# Altium footprint library PwrSupply-Footprints-Library.PcbLib: 18 footprints (part 1 of 2)
Each footprint in its own frame and in the unit in brackets; x right, y up, seen from the top. Pads: shape width x height; smd on the part's side, far side on the other; paste and mask are expansions set on the pad; w line width, h text height; cw(c..) or ccw(c..) is an arc to the next point about the centre after c.
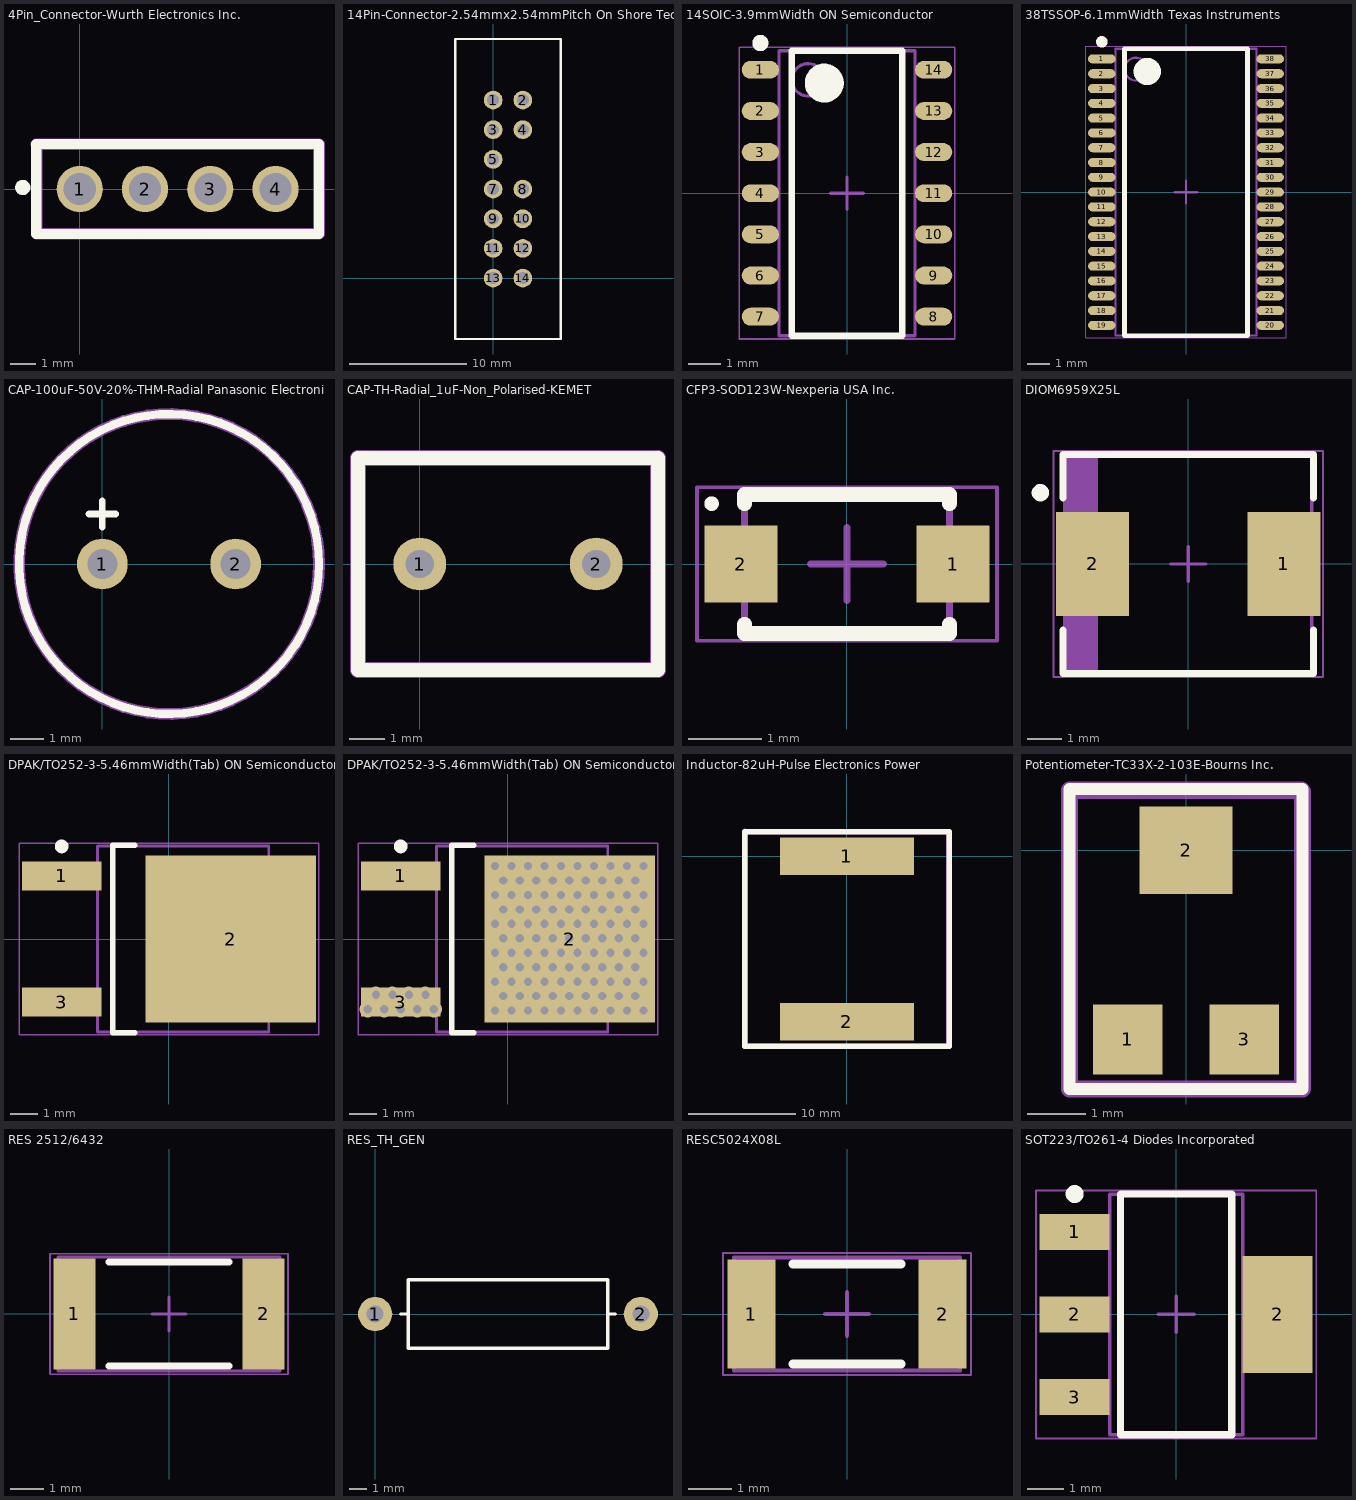
[diagram p0: the footprints below, top view; thin cyan lines are the x and y axes]

## 4Pin_Connector-Wurth Electronics Inc. [mm] "Pitch 2.54mm-1.15mmWidth-Wurth Electronics Inc."
pads (4):
  round 1.8 hole 1.25: 1(0,0) 2(2.54,0) 3(5.08,0) 4(7.62,0)
Top Overlay:
  circle w0.3: c-2.22,0.06 r0.146
  lines w0.4: -1.69,-1.75 9.31,-1.75 9.31,1.75 -1.69,1.75 -1.69,-1.75
Mechanical 15:
  lines w0.45: -1.69,1.75 9.31,1.75 9.31,-1.75 -1.68,-1.75 -1.68,1.74 -1.69,1.75
  text "'Designator'" at 0.82,-1.45 h0.5

## 14Pin-Connector-2.54mmx2.54mmPitch On Shore Technology Inc. [mm] "14Pin-Connector-2.54mmx2.54mmPitch"
pads (13):
  round 1.6 hole 1.02: 1(0,15.24) 2(2.54,15.24) 3(0,12.7) 4(2.54,12.7) 5(0,10.16) 7(0,7.62) 8(2.54,7.62) 9(0,5.08) 10(2.54,5.08) 11(0,2.54) 12(2.54,2.54) 13(0,0) 14(2.54,0)
Top Overlay:
  lines w0.2: -3.255,-5.215 5.795,-5.215 5.795,20.465 -3.255,20.465 -3.255,-5.215

## 14SOIC-3.9mmWidth ON Semiconductor [mm] "SOIC, 14-Leads, Body 8.56x3.98mm, Pitch 1.27mm, IPC High Density"
height 1.65
pads (14):
  oval 1.15x0.55 smd: 1(-2.675,3.81) 2(-2.675,2.54) 3(-2.675,1.27) 4(-2.675,0) 5(-2.675,-1.27) 6(-2.675,-2.54) 7(-2.675,-3.81) 8(2.675,-3.81) 9(2.675,-2.54) 10(2.675,-1.27) 11(2.675,0) 12(2.675,1.27) 13(2.675,2.54) 14(2.675,3.81)
Top Overlay:
  circle w0.6: c-0.7,3.4 r0.3
  circle w0.25: c-2.675,4.635 r0.125
  lines w0.2: -1.7,-4.4 1.7,-4.4 1.7,4.4 -1.7,4.4 -1.7,-4.4
Mechanical 13:
  circle w0.1: c-1.2,3.5 r0.5
  lines w0.1: -2.1,-4.4 2.1,-4.4 2.1,4.4 -2.1,4.4 -2.1,-4.4
Mechanical 15:
  lines w0.05: -3.325,-4.5 3.325,-4.5 3.325,4.5 -3.325,4.5 -3.325,-4.5
  lines w0.1: -0.5,0 0.5,0 ; 0,-0.5 0,0.5
  text "'.Designator'" at 0.7,4.075 h1
3D body: height 1.65, standoff 0.1, extent -2.1,-4.4 2.1,4.4

## 38TSSOP-6.1mmWidth Texas Instruments [mm] "TSOP, 38-Leads, Body 12.50x6.10mm, Pitch 0.65mm, IPC High Density"
height 1.2
pads (38):
  oval 1.2x0.4 smd: 1(-3.7,5.85) 2(-3.7,5.2) 3(-3.7,4.55) 4(-3.7,3.9) 5(-3.7,3.25) 6(-3.7,2.6) 7(-3.7,1.95) 8(-3.7,1.3) 9(-3.7,0.65) 10(-3.7,0) 11(-3.7,-0.65) 12(-3.7,-1.3) 13(-3.7,-1.95) 14(-3.7,-2.6) 15(-3.7,-3.25) 16(-3.7,-3.9) 17(-3.7,-4.55) 18(-3.7,-5.2) 19(-3.7,-5.85) 20(3.7,-5.85) 21(3.7,-5.2) 22(3.7,-4.55) 23(3.7,-3.9) 24(3.7,-3.25) 25(3.7,-2.6) 26(3.7,-1.95) 27(3.7,-1.3) 28(3.7,-0.65) 29(3.7,0) 30(3.7,0.65) 31(3.7,1.3) 32(3.7,1.95) 33(3.7,2.6) 34(3.7,3.25) 35(3.7,3.9) 36(3.7,4.55) 37(3.7,5.2) 38(3.7,5.85)
Top Overlay:
  circle w0.6: c-1.7,5.3 r0.3
  circle w0.25: c-3.7,6.6 r0.125
  lines w0.2: -2.7,-6.3 2.7,-6.3 2.7,6.3 -2.7,6.3 -2.7,-6.3
Mechanical 13:
  circle w0.1: c-2.2,5.4 r0.5
  lines w0.1: -3.1,-6.3 3.1,-6.3 3.1,6.3 -3.1,6.3 -3.1,-6.3
Mechanical 15:
  lines w0.05: -4.4,-6.4 4.4,-6.4 4.4,6.4 -4.4,6.4 -4.4,-6.4
  lines w0.1: -0.5,0 0.5,0 ; 0,-0.5 0,0.5
  text "'.Designator'" at -0.127,5.207 h0.8
3D body: height 1.2, standoff 0.15, extent -3.1,-6.3 3.1,6.3

## CAP-100uF-50V-20%-THM-Radial Panasonic Electronic Components [mil] "THM-Radial- Pitch3.5mm"
pads (2):
  round 60 hole 35.43: 1(0,0) 2(157.48,0)
Top Overlay:
  circle w10: c78.74,0 r177.17
  lines w7.87: -15.75,59.06 15.75,59.06 ; 0,43.31 0,74.8
Mechanical 15:
  circle w13.78: c78.74,0 r177.17
  text "'Designator'" at -27.56,94.49 h19.68

## CAP-TH-Radial_1uF-Non_Polarised-KEMET [mm] "Radial-Through Hole-5mmPitch-(7.20mm x 5.00mm)"
pads (2):
  round 1.5 hole 0.8: 1(0,0) 2(5,0)
Top Overlay:
  lines w0.4: -1.75,-3 6.75,-3 6.75,3 -1.75,3 -1.75,-3
Mechanical 15:
  lines w0.45: -1.75,-3 6.75,-3 6.75,3 -1.75,3 -1.75,-3
  text "'Designator'" at 0.05,1.525 h0.5

## CFP3-SOD123W-Nexperia USA Inc. [mm] "SODFL, 2-Leads, Body 1.70x3.50mm, IPC High Density"
height 1.1
pads (2):
  rect 1x1.05 smd: 1(1.45,0) 2(-1.45,0)
Top Overlay:
  circle w0.1: c-1.85,0.825 r0.05
  lines w0.2: -1.4,-0.825 -1.4,-0.95 1.4,-0.95 1.4,-0.825 ; -1.4,0.825 -1.4,0.95 1.4,0.95 1.4,0.825
Mechanical 13:
  lines w0.1: -1.4,-0.95 1.4,-0.95 1.4,0.95 -1.4,0.95 -1.4,-0.95
Mechanical 15:
  lines w0.05: -2.05,-1.05 2.05,-1.05 2.05,1.05 -2.05,1.05 -2.05,-1.05
  lines w0.1: -0.5,0 0.5,0 ; 0,-0.5 0,0.5
3D body: height 1.1, standoff 0, extent -1.4,-0.95 1.4,0.95

## DIOM6959X25L [mm] "Molded Diode, 2-Leads, Body 6.85x5.90mm, IPC High Density"
height 2.5
pads (2):
  rect 2.1x3 smd: 1(2.75,0) 2(-2.75,0)
Top Overlay:
  circle w0.25: c-4.25,2.05 r0.125
  lines w0.2: -3.6,-1.9 -3.6,-3.15 3.6,-3.15 3.6,-1.9 ; -3.6,1.9 -3.6,3.15 3.6,3.15 3.6,1.9
Mechanical 13:
  rectangle: -3.555,-3.11 -2.599,3.11
  lines w0.1: -3.555,-3.11 -3.555,3.11 3.555,3.11 3.555,-3.11 -3.555,-3.11
Mechanical 15:
  lines w0.05: -3.875,-3.25 -3.875,3.25 3.875,3.25 3.875,-3.25 -3.875,-3.25
  lines w0.1: -0.5,0 0.5,0 ; 0,-0.5 0,0.5
3D body: height 2.5, standoff 0, extent -3.555,-3.11 3.555,3.11

## DPAK/TO252-3-5.46mmWidth(Tab) ON Semiconductor [mm] "DPAK/TO252-3-5.46mmWidth(Tab)-6.73mmWidth(Body) ON Semiconductor"
height 2.38
pads (3):
  rect 2.9x1.05 smd: 1(-3.9,2.29) 3(-3.9,-2.29)
  rect 6.2x6.05 smd: 2(2.25,0)
Top Overlay:
  circle w0.25: c-3.9,3.365 r0.125
  lines w0.2: -1.25,-3.4 -2.05,-3.4 -2.05,3.4 -1.25,3.4
Mechanical 13:
  lines w0.1: -2.6,-3.375 3.62,-3.375 3.62,3.375 -2.6,3.375 -2.6,-3.375
Mechanical 15:
  lines w0.05: -5.45,-3.475 5.45,-3.475 5.45,3.475 -5.45,3.475 -5.45,-3.475
  lines w0.1: -0.5,0 0.5,0 ; 0,-0.5 0,0.5
  text "'.Designator'" at -5.25,0.125 h0.8
3D body: height 2.38, standoff 0.13, extent -2.6,-3.375 3.62,3.375

## DPAK/TO252-3-5.46mmWidth(Tab) ON Semiconductor - VIAS [mm] "DPAK/TO252-3-5.46mmWidth(Tab)-6.73mmWidth(Body) ON Semiconductor"
height 2.38
pads (3):
  rect 2.9x1.05 smd: 1(-3.9,2.29) 3(-3.9,-2.29)
  rect 6.2x6.05 smd: 2(2.25,0)
via -0.475,-2.6 diameter 0.6 hole 0.3
via 0.125,-2.6 diameter 0.6 hole 0.3
via 0.725,-2.6 diameter 0.6 hole 0.3
via 1.325,-2.6 diameter 0.6 hole 0.3
via 1.925,-2.6 diameter 0.6 hole 0.3
via 2.525,-2.6 diameter 0.6 hole 0.3
via 3.125,-2.6 diameter 0.6 hole 0.3
via 3.725,-2.6 diameter 0.6 hole 0.3
via 4.325,-2.6 diameter 0.6 hole 0.3
via 4.925,-2.6 diameter 0.6 hole 0.3
via -0.175,-2.075 diameter 0.6 hole 0.3
via 0.425,-2.075 diameter 0.6 hole 0.3
via 1.025,-2.075 diameter 0.6 hole 0.3
via 1.625,-2.075 diameter 0.6 hole 0.3
via 2.225,-2.075 diameter 0.6 hole 0.3
via 2.825,-2.075 diameter 0.6 hole 0.3
via 3.425,-2.075 diameter 0.6 hole 0.3
via 4.025,-2.075 diameter 0.6 hole 0.3
via 4.625,-2.075 diameter 0.6 hole 0.3
via 4.625,-1.025 diameter 0.6 hole 0.3
via 4.025,-1.025 diameter 0.6 hole 0.3
via 3.425,-1.025 diameter 0.6 hole 0.3
via 2.825,-1.025 diameter 0.6 hole 0.3
via 2.225,-1.025 diameter 0.6 hole 0.3
via 1.625,-1.025 diameter 0.6 hole 0.3
via 1.025,-1.025 diameter 0.6 hole 0.3
via 0.425,-1.025 diameter 0.6 hole 0.3
via -0.175,-1.025 diameter 0.6 hole 0.3
via 4.925,-1.55 diameter 0.6 hole 0.3
via 4.325,-1.55 diameter 0.6 hole 0.3
via 3.725,-1.55 diameter 0.6 hole 0.3
via 3.125,-1.55 diameter 0.6 hole 0.3
via 2.525,-1.55 diameter 0.6 hole 0.3
via 1.925,-1.55 diameter 0.6 hole 0.3
via 1.325,-1.55 diameter 0.6 hole 0.3
via 0.725,-1.55 diameter 0.6 hole 0.3
via 0.125,-1.55 diameter 0.6 hole 0.3
via -0.475,-1.55 diameter 0.6 hole 0.3
via 4.625,0.025 diameter 0.6 hole 0.3
via 4.025,0.025 diameter 0.6 hole 0.3
via 3.425,0.025 diameter 0.6 hole 0.3
via 2.825,0.025 diameter 0.6 hole 0.3
via 2.225,0.025 diameter 0.6 hole 0.3
via 1.625,0.025 diameter 0.6 hole 0.3
via 1.025,0.025 diameter 0.6 hole 0.3
via 0.425,0.025 diameter 0.6 hole 0.3
via -0.175,0.025 diameter 0.6 hole 0.3
via 4.925,-0.5 diameter 0.6 hole 0.3
via 4.325,-0.5 diameter 0.6 hole 0.3
via 3.725,-0.5 diameter 0.6 hole 0.3
via 3.125,-0.5 diameter 0.6 hole 0.3
via 2.525,-0.5 diameter 0.6 hole 0.3
via 1.925,-0.5 diameter 0.6 hole 0.3
via 1.325,-0.5 diameter 0.6 hole 0.3
via 0.725,-0.5 diameter 0.6 hole 0.3
via 0.125,-0.5 diameter 0.6 hole 0.3
via -0.475,-0.5 diameter 0.6 hole 0.3
via 4.625,1.075 diameter 0.6 hole 0.3
via 4.025,1.075 diameter 0.6 hole 0.3
via 3.425,1.075 diameter 0.6 hole 0.3
via 2.825,1.075 diameter 0.6 hole 0.3
via 2.225,1.075 diameter 0.6 hole 0.3
via 1.625,1.075 diameter 0.6 hole 0.3
via 1.025,1.075 diameter 0.6 hole 0.3
via 0.425,1.075 diameter 0.6 hole 0.3
via -0.175,1.075 diameter 0.6 hole 0.3
via 4.925,0.55 diameter 0.6 hole 0.3
via 4.325,0.55 diameter 0.6 hole 0.3
via 3.725,0.55 diameter 0.6 hole 0.3
via 3.125,0.55 diameter 0.6 hole 0.3
via 2.525,0.55 diameter 0.6 hole 0.3
via 1.925,0.55 diameter 0.6 hole 0.3
via 1.325,0.55 diameter 0.6 hole 0.3
via 0.725,0.55 diameter 0.6 hole 0.3
via 0.125,0.55 diameter 0.6 hole 0.3
via -0.475,0.55 diameter 0.6 hole 0.3
via 4.625,2.125 diameter 0.6 hole 0.3
via 4.025,2.125 diameter 0.6 hole 0.3
via 3.425,2.125 diameter 0.6 hole 0.3
via 2.825,2.125 diameter 0.6 hole 0.3
via 2.225,2.125 diameter 0.6 hole 0.3
via 1.625,2.125 diameter 0.6 hole 0.3
via 1.025,2.125 diameter 0.6 hole 0.3
via 0.425,2.125 diameter 0.6 hole 0.3
via -0.175,2.125 diameter 0.6 hole 0.3
via 4.925,1.6 diameter 0.6 hole 0.3
via 4.325,1.6 diameter 0.6 hole 0.3
via 3.725,1.6 diameter 0.6 hole 0.3
via 3.125,1.6 diameter 0.6 hole 0.3
via 2.525,1.6 diameter 0.6 hole 0.3
via 1.925,1.6 diameter 0.6 hole 0.3
via 1.325,1.6 diameter 0.6 hole 0.3
via 0.725,1.6 diameter 0.6 hole 0.3
via 0.125,1.6 diameter 0.6 hole 0.3
via -0.475,1.6 diameter 0.6 hole 0.3
via -3,-2.025 diameter 0.6 hole 0.3
via -3.6,-2.025 diameter 0.6 hole 0.3
via -4.2,-2.025 diameter 0.6 hole 0.3
via -4.8,-2.025 diameter 0.6 hole 0.3
via -2.7,-2.55 diameter 0.6 hole 0.3
via -3.3,-2.55 diameter 0.6 hole 0.3
via -3.9,-2.55 diameter 0.6 hole 0.3
via -4.5,-2.55 diameter 0.6 hole 0.3
via -5.1,-2.55 diameter 0.6 hole 0.3
via 4.925,2.65 diameter 0.6 hole 0.3
via 4.325,2.65 diameter 0.6 hole 0.3
via 3.725,2.65 diameter 0.6 hole 0.3
via 3.125,2.65 diameter 0.6 hole 0.3
via 2.525,2.65 diameter 0.6 hole 0.3
via 1.925,2.65 diameter 0.6 hole 0.3
via 1.325,2.65 diameter 0.6 hole 0.3
via 0.725,2.65 diameter 0.6 hole 0.3
via 0.125,2.65 diameter 0.6 hole 0.3
via -0.475,2.65 diameter 0.6 hole 0.3
Top Overlay:
  circle w0.25: c-3.9,3.365 r0.125
  lines w0.2: -1.25,-3.4 -2.05,-3.4 -2.05,3.4 -1.25,3.4
Mechanical 13:
  lines w0.1: -2.6,-3.375 -2.6,3.375 3.62,3.375 3.62,-3.375 -2.6,-3.375
Mechanical 15:
  lines w0.05: -5.45,-3.475 -5.45,3.475 5.45,3.475 5.45,-3.475 -5.45,-3.475
  text "'.Designator'" at -5.25,0.125 h0.8
3D body: height 2.38, standoff 0.13, extent -2.6,-3.375 3.62,3.375

## Inductor-82uH-Pulse Electronics Power [mm] "17.8x16.9mm Pulse Electronics Power"
pads (2):
  rect 12.5x3.5 smd: 1(0,0) 2(0,-15.4)
Top Overlay:
  lines w0.5: -9.5,-17.675 9.5,-17.675 9.5,2.275 -9.5,2.275 -9.5,-17.675
Mechanical 15:
  lines w0.55: -9.5,2.3 -9.5,-17.675 9.5,-17.675 9.5,2.275 -9.475,2.275
  text "'Designator'" at -4.2,-8.1 h2

## Potentiometer-TC33X-2-103E-Bourns Inc. [mm] "Rectangular-3.80mm x 3.60mm x 1.20mm"
height 1.2
pads (3):
  rect 1.2x1.2 smd: 1(-1,-3.25) 3(1,-3.25)
  rect 1.6x1.5 smd: 2(0,0)
Top Overlay:
  lines w0.2: -2,-4.1 2,-4.1 2,1.05 -2,1.05 -2,-4.1
Mechanical 15:
  lines w0.3: -2,-4.1 2,-4.1 2,1 1.975,1.025 -2,1.025 -2,-4.1
  text "'Designator'" at -1.125,-1.45 h0.5

## RES 2512/6432 [mm] "Chip Resistor, 2-Leads, Body 6.40x3.20mm, IPC High Density"
height 0.7
pads (2):
  rect 1.25x3.3 smd: 1(-2.825,0) 2(2.825,0)
Top Overlay:
  lines w0.2: -1.8,-1.55 1.8,-1.55 ; -1.8,1.55 1.8,1.55
Mechanical 13:
  lines w0.1: -3.3,-1.7 3.3,-1.7 3.3,1.7 -3.3,1.7 -3.3,-1.7
Mechanical 15:
  lines w0.05: -3.55,-1.8 3.55,-1.8 3.55,1.8 -3.55,1.8 -3.55,-1.8
  lines w0.1: -0.5,0 0.5,0 ; 0,-0.5 0,0.5
  text "'.Designator'" at -2.032,-0.127 h1
3D body: height 0.7, standoff 0, extent 2.55,-1.7 3.3,1.7
3D body: height 0.7, standoff 0, extent -3.3,-1.7 -2.55,1.7
3D body: height 0.7, standoff 0, extent -2.55,-1.7 2.55,1.7

## RES_TH_GEN [mm]
pads (2):
  round 2 hole 1: 1(0,0) 2(15.5,0)
Top Overlay:
  lines w0.2: 1.5,0 1.925,0 ; 13.575,0 14,0 ; 1.925,0 1.925,-2 13.575,-2 13.575,2 1.925,2 1.925,0

## RESC5024X08L [mm] "Chip Resistor, 2-Leads, Body 5.00x2.45mm, IPC High Density"
height 0.75
pads (2):
  rect 1.1x2.5 smd: 1(-2.2,0) 2(2.2,0)
Top Overlay:
  lines w0.2: -1.25,-1.15 1.25,-1.15 ; -1.25,1.15 1.25,1.15
Mechanical 13:
  lines w0.1: -2.6,-1.3 -2.6,1.3 2.6,1.3 2.6,-1.3 -2.6,-1.3
Mechanical 15:
  lines w0.05: -2.85,-1.4 -2.85,1.4 2.85,1.4 2.85,-1.4 -2.85,-1.4
  lines w0.1: -0.5,0 0.5,0 ; 0,-0.5 0,0.5
3D body: height 0.75, standoff 0, extent -2.1,-1.3 2.1,1.3
3D body: height 0.75, standoff 0, extent -2.6,-1.3 -2.1,1.3
3D body: height 0.75, standoff 0, extent 2.1,-1.3 2.6,1.3

## SOT223/TO261-4 Diodes Incorporated [mm] "SOT223, 4-Leads, Body 6.50x7.00mm (avg), Pitch 2.30mm, IPC High Density"
height 1.8
pads (4):
  rect 1.95x1 smd: 1(-2.825,2.3) 2(-2.825,0) 3(-2.825,-2.3)
  rect 1.95x3.25 smd: 2(2.825,0)
Top Overlay:
  circle w0.25: c-2.825,3.35 r0.125
  lines w0.2: -1.55,-3.35 1.55,-3.35 1.55,3.35 -1.55,3.35 -1.55,-3.35
Mechanical 13:
  lines w0.1: -1.85,-3.35 1.85,-3.35 1.85,3.35 -1.85,3.35 -1.85,-3.35
Mechanical 15:
  lines w0.05: -3.9,-3.45 3.9,-3.45 3.9,3.45 -3.9,3.45 -3.9,-3.45
  lines w0.1: -0.5,0 0.5,0 ; 0,-0.5 0,0.5
  text "'Designator'" at -0.225,3 h0.7
3D body: height 1.8, standoff 0.15, extent -1.85,-3.35 1.85,3.35